# Altium schematic symbol library K155ID1.SchLib: 1 symbol
Pins are listed as number, name and electrical type; pins without a type are passive.

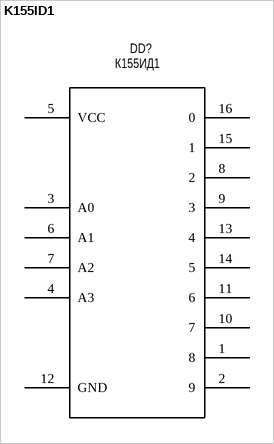
[diagram p0: symbol K155ID1]

## K155ID1
designator DD?, comment К155ИД1
footprint DIP16
pins: 1 8, 2 9, 3 A0, 4 A3, 5 VCC, 6 A1, 7 A2, 8 2, 9 3, 10 7, 11 6, 12 GND, 13 4, 14 5, 15 1, 16 0